# Altium schematic symbol library TFT-ST7735.SchLib: 1 symbol
Pins are listed as number, name and electrical type; pins without a type are passive.

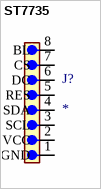
[diagram p0: symbol ST7735]

## ST7735
designator J?
1.8 inches 128x160 RGB TFT LCD - ST7735 DRIVER
footprint ST7735 (1.8 inches 128x160 RGB TFT LCD - ST7735 DRIVER)
pins: 1 GND, 2 VCC, 3 SCL, 4 SDA, 5 RES, 6 DC, 7 CS, 8 BL